# EAGLE library part MSP432P401R-LAUNCHPAD (library 2016PowerPackLibraries)
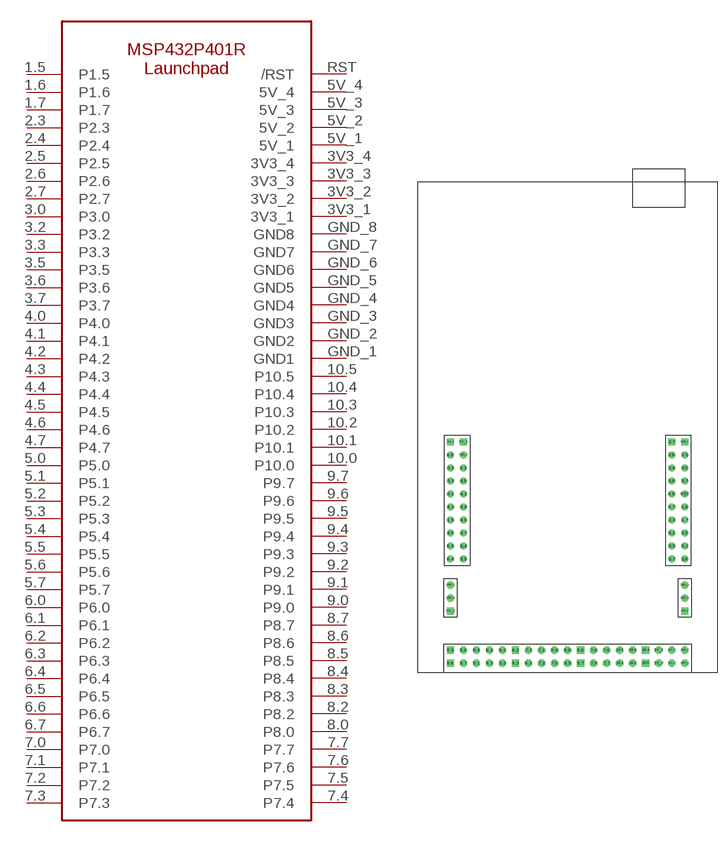
[diagram p3: symbol with the pads of MSP432P401R-LAUNCHPAD; footprint MSP432P401R-LAUNCHPAD]

Designator prefix -

## MSP432P401R-LAUNCHPAD  [MSP432P401R-LAUNCHPAD]
1.5  P1.5
1.6  P1.6
1.7  P1.7
2.3  P2.3
2.4  P2.4
2.5  P2.5
2.6  P2.6
2.7  P2.7
3.0  P3.0
3.2  P3.2
3.3  P3.3
3.5  P3.5
3.6  P3.6
3.7  P3.7
3V3_1  3V3_1
3V3_2  3V3_2
3V3_3  3V3_3
3V3_4  3V3_4
4.0  P4.0
4.1  P4.1
4.2  P4.2
4.3  P4.3
4.4  P4.4
4.5  P4.5
4.6  P4.6
4.7  P4.7
5.0  P5.0
5.1  P5.1
5.2  P5.2
5.3  P5.3
5.4  P5.4
5.5  P5.5
5.6  P5.6
5.7  P5.7
5V_1  5V_1
5V_2  5V_2
5V_3  5V_3
5V_4  5V_4
6.0  P6.0
6.1  P6.1
6.2  P6.2
6.3  P6.3
6.4  P6.4
6.5  P6.5
6.6  P6.6
6.7  P6.7
7.0  P7.0
7.1  P7.1
7.2  P7.2
7.3  P7.3
7.4  P7.4
7.5  P7.5
7.6  P7.6
7.7  P7.7
8.0  P8.0
8.2  P8.2
8.3  P8.3
8.4  P8.4
8.5  P8.5
8.6  P8.6
8.7  P8.7
9.0  P9.0
9.1  P9.1
9.2  P9.2
9.3  P9.3
9.4  P9.4
9.5  P9.5
9.6  P9.6
9.7  P9.7
10.0  P10.0
10.1  P10.1
10.2  P10.2
10.3  P10.3
10.4  P10.4
10.5  P10.5
GND_1  GND1
GND_2  GND2
GND_3  GND3
GND_4  GND4
GND_5  GND5
GND_6  GND6
GND_7  GND7
GND_8  GND8
RST  /RST

## Footprint MSP432P401R-LAUNCHPAD (pad centres in mm)
drill 0.9: 1.5 7.62,30.48; 1.6 53.34,33.02; 1.7 53.34,30.48; 2.3 50.8,30.48; 2.4 50.8,40.64; 2.5 53.34,43.18; 2.6 50.8,43.18; 3.0 53.34,40.64; 3.2 7.62,40.64; 3.3 7.62,38.1; 3.5 50.8,25.4; 3.6 53.34,22.86; 3.7 50.8,22.86; 4.0 10.16,38.1; 4.1 7.62,35.56; 4.2 10.16,35.56; 4.3 7.62,33.02; 4.4 10.16,33.02; 4.5 10.16,30.48; 4.6 7.62,27.94; 4.7 10.16,27.94; 5.0 53.34,27.94; 5.1 50.8,27.94; 5.2 53.34,25.4; 5.4 10.16,25.4; 5.5 10.16,22.86; 5.6 50.8,38.1; 5.7 53.34,38.1; 6.0 7.62,43.18; 6.1 10.16,40.64; 6.4 7.62,22.86; 6.5 7.62,25.4; 6.6 50.8,35.56; 6.7 50.8,33.02; GND_1 10.16,43.18; GND_3 7.62,17.78; GND_4 53.34,17.78; GND_5 7.62,15.24; GND_6 53.34,15.24; RST 53.34,35.56
drill 0.9 square: 2.7 50.8,45.72; 3V3_1 7.62,45.72; 3V3_2 53.34,12.7; 5V_1 10.16,45.72; 5V_2 7.62,12.7; 6.2 20.32,5.08; 8.0 33.02,5.08; 8.5 7.62,5.08; 8.6 7.62,2.54; 9.3 20.32,2.54; 9.7 33.02,2.54; 10.4 45.72,5.08; 10.5 45.72,2.54; GND_2 53.34,45.72
drill 0.9 octagon: 3V3_3 50.8,5.08; 3V3_4 50.8,2.54; 5.3 17.78,2.54; 5V_3 48.26,5.08; 5V_4 48.26,2.54; 6.3 22.86,2.54; 7.0 27.94,2.54; 7.1 25.4,5.08; 7.2 25.4,2.54; 7.3 22.86,5.08; 7.4 35.56,5.08; 7.5 35.56,2.54; 7.6 38.1,5.08; 7.7 38.1,2.54; 8.2 15.24,5.08; 8.3 15.24,2.54; 8.4 12.7,5.08; 8.7 10.16,2.54; 9.0 10.16,5.08; 9.1 12.7,2.54; 9.2 17.78,5.08; 9.4 27.94,5.08; 9.5 30.48,2.54; 9.6 30.48,5.08; 10.0 40.64,5.08; 10.1 40.64,2.54; 10.2 43.18,5.08; 10.3 43.18,2.54; GND_7 53.34,5.08; GND_8 53.34,2.54